# EAGLE library part EZR32LG330 (library ezr)
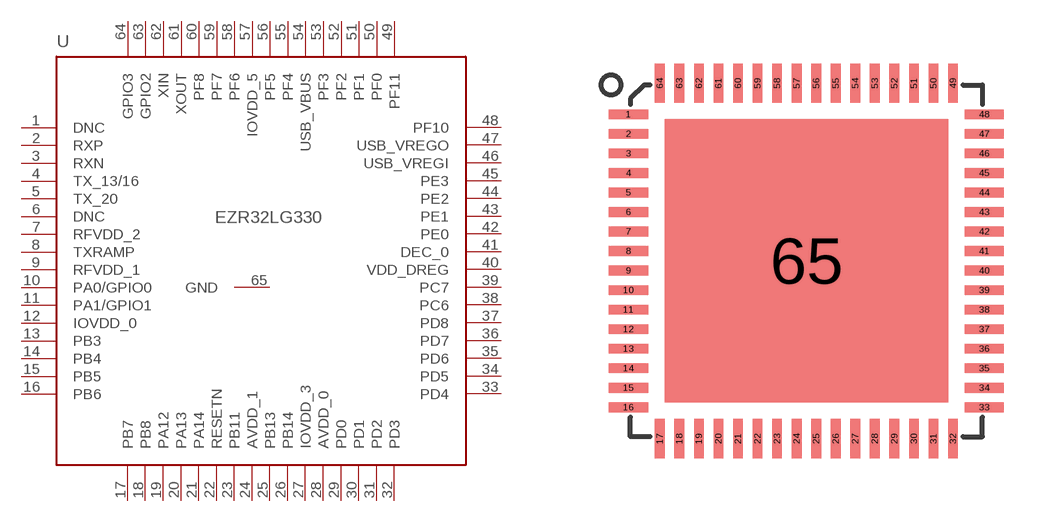
[diagram p0: symbol with the pads of QFN64G-0.5-9X9MM; footprint QFN64G-0.5-9X9MM]

Designator prefix -

## EZR32LG330  [QFN64G-0.5-9X9MM]
1  DNC
2  RXP
3  RXN
4  TX_13/16
5  TX_20
6  DNC
7  RFVDD_2
8  TXRAMP
9  RFVDD_1
10  PA0/GPIO0
11  PA1/GPIO1
12  IOVDD_0
13  PB3
14  PB4
15  PB5
16  PB6
17  PB7
18  PB8
19  PA12
20  PA13
21  PA14
22  RESETN
23  PB11
24  AVDD_1
25  PB13
26  PB14
27  IOVDD_3
28  AVDD_0
29  PD0
30  PD1
31  PD2
32  PD3
33  PD4
34  PD5
35  PD6
36  PD7
37  PD8
38  PC6
39  PC7
40  VDD_DREG
41  DEC_0
42  PE0
43  PE1
44  PE2
45  PE3
46  USB_VREGI
47  USB_VREGO
48  PF10
49  PF11
50  PF0
51  PF1
52  PF2
53  PF3
54  USB_VBUS
55  PF4
56  PF5
57  IOVDD_5
58  PF6
59  PF7
60  PF8
61  XOUT
62  XIN
63  GPIO2
64  GPIO3
65  GND

## Footprint QFN64G-0.5-9X9MM (pad centres in mm)
smd 1 x 0.25: 1 -4.55,3.75; 2 -4.55,3.25; 3 -4.55,2.75; 4 -4.55,2.25; 5 -4.55,1.75; 6 -4.55,1.25; 7 -4.55,0.75; 8 -4.55,0.25; 9 -4.55,-0.25; 10 -4.55,-0.75; 11 -4.55,-1.25; 12 -4.55,-1.75; 13 -4.55,-2.25; 14 -4.55,-2.75; 15 -4.55,-3.25; 16 -4.55,-3.75; 33 4.55,-3.75; 34 4.55,-3.25; 35 4.55,-2.75; 36 4.55,-2.25; 37 4.55,-1.75; 38 4.55,-1.25; 39 4.55,-0.75; 40 4.55,-0.25; 41 4.55,0.25; 42 4.55,0.75; 43 4.55,1.25; 44 4.55,1.75; 45 4.55,2.25; 46 4.55,2.75; 47 4.55,3.25; 48 4.55,3.75
smd 0.25 x 1: 17 -3.75,-4.55; 18 -3.25,-4.55; 19 -2.75,-4.55; 20 -2.25,-4.55; 21 -1.75,-4.55; 22 -1.25,-4.55; 23 -0.75,-4.55; 24 -0.25,-4.55; 25 0.25,-4.55; 26 0.75,-4.55; 27 1.25,-4.55; 28 1.75,-4.55; 29 2.25,-4.55; 30 2.75,-4.55; 31 3.25,-4.55; 32 3.75,-4.55; 49 3.75,4.55; 50 3.25,4.55; 51 2.75,4.55; 52 2.25,4.55; 53 1.75,4.55; 54 1.25,4.55; 55 0.75,4.55; 56 0.25,4.55; 57 -0.25,4.55; 58 -0.75,4.55; 59 -1.25,4.55; 60 -1.75,4.55; 61 -2.25,4.55; 62 -2.75,4.55; 63 -3.25,4.55; 64 -3.75,4.55
smd 7.25 x 7.25: 65 0,0